# Altium footprint library LED.PcbLib: 1 footprints
Each footprint in its own frame and in the unit in brackets; x right, y up, seen from the top. Pads: shape width x height; smd on the part's side, far side on the other; paste and mask are expansions set on the pad; w line width, h text height; cw(c..) or ccw(c..) is an arc to the next point about the centre after c.
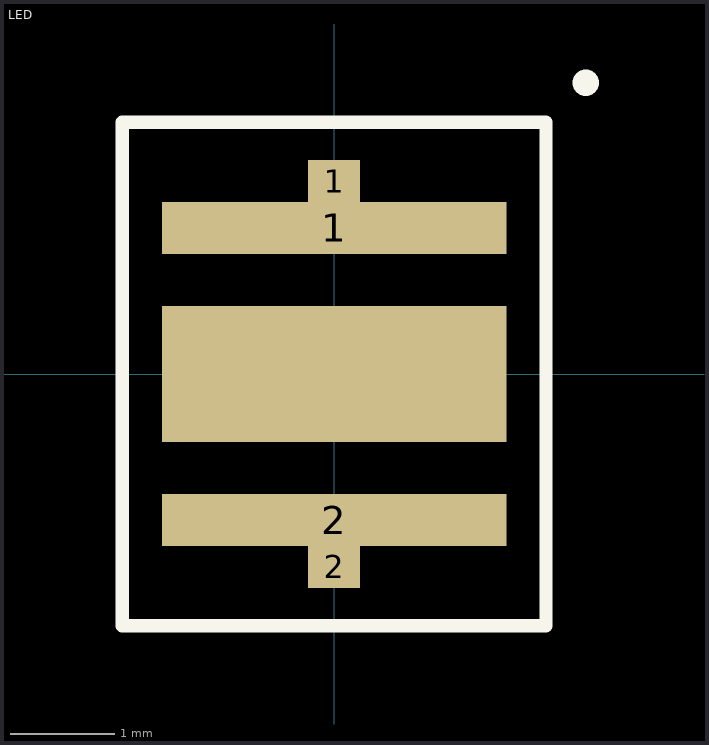
[diagram p0: the footprint, top view; thin cyan lines are the x and y axes]

## LED [mm]
height 0.127
pads (5):
  rect 3.3x0.5 smd: 1(0,1.4) 2(0,-1.4)
  rect 0.5x0.4 smd: 1(0,1.85) 2(0,-1.85)
  rect 3.3x1.3 smd: ""(0,0)
Top Overlay:
  lines w0.127: -2.032,-2.413 2.032,-2.413 2.032,2.413 -2.032,2.413 -2.032,-2.413
  lines w0.254: 2.413,2.794 2.413,2.794